# EAGLE library part IC_SRAM_6264_64K_8KB (library mylib_20130829)
MEMORY
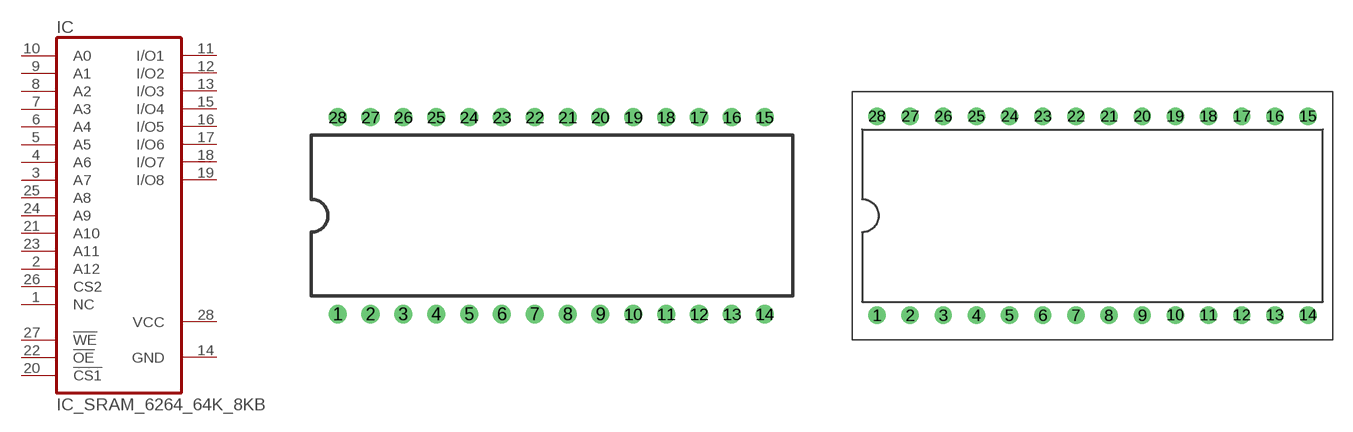
[diagram p88: symbol with the pads of IC_SOCKET_DIL_28_600MIL; footprints IC_SOCKET_DIL_28_600MIL, BOARD_HENKAN_WDIP28]

Designator prefix IC

## IC_SRAM_6264_64K_8KB_DIP  [IC_SOCKET_DIL_28_600MIL]
1  NC  nc
2  A12  in
3  A7  in
4  A6  in
5  A5  in
6  A4  in
7  A3  in
8  A2  in
9  A1  in
10  A0  in
11  I/O1
12  I/O2
13  I/O3
14  GND  pwr
15  I/O4
16  I/O5
17  I/O6
18  I/O7
19  I/O8
20  !CS1  in
21  A10  in
22  !OE  in
23  A11  in
24  A9  in
25  A8  in
26  CS2  in
27  !WE  in
28  VCC  pwr

## IC_SRAM_6264_64K_8KB_HENKAN  [BOARD_HENKAN_WDIP28]
Pads as for IC_SOCKET_DIL_28_600MIL

## IC_SRAM_6264_64K_8KB_SLIM  [IC_SOCKET_DIL_28_300MIL]
Pads as for IC_SOCKET_DIL_28_600MIL

## Footprint IC_SOCKET_DIL_28_600MIL (pad centres in mm)
Dual In Line package type P
drill 0.889: 1 -16.51,-7.62; 2 -13.97,-7.62; 3 -11.43,-7.62; 4 -8.89,-7.62; 5 -6.35,-7.62; 6 -3.81,-7.62; 7 -1.27,-7.62; 8 1.27,-7.62; 9 3.81,-7.62; 10 6.35,-7.62; 11 8.89,-7.62; 12 11.43,-7.62; 13 13.97,-7.62; 14 16.51,-7.62; 15 16.51,7.62; 16 13.97,7.62; 17 11.43,7.62; 18 8.89,7.62; 19 6.35,7.62; 20 3.81,7.62; 21 1.27,7.62; 22 -1.27,7.62; 23 -3.81,7.62; 24 -6.35,7.62; 25 -8.89,7.62; 26 -11.43,7.62; 27 -13.97,7.62; 28 -16.51,7.62

## Footprint BOARD_HENKAN_WDIP28 (pad centres in mm)
drill 0.813: 1 -16.51,-7.62; 2 -13.97,-7.62; 3 -11.43,-7.62; 4 -8.89,-7.62; 5 -6.35,-7.62; 6 -3.81,-7.62; 7 -1.27,-7.62; 8 1.27,-7.62; 9 3.81,-7.62; 10 6.35,-7.62; 11 8.89,-7.62; 12 11.43,-7.62; 13 13.97,-7.62; 14 16.51,-7.62; 15 16.51,7.62; 16 13.97,7.62; 17 11.43,7.62; 18 8.89,7.62; 19 6.35,7.62; 20 3.81,7.62; 21 1.27,7.62; 22 -1.27,7.62; 23 -3.81,7.62; 24 -6.35,7.62; 25 -8.89,7.62; 26 -11.43,7.62; 27 -13.97,7.62; 28 -16.51,7.62

## Footprint IC_SOCKET_DIL_28_300MIL (pad centres in mm)
Dual In Line package type P
drill 0.889: 1 -16.51,-3.81; 2 -13.97,-3.81; 3 -11.43,-3.81; 4 -8.89,-3.81; 5 -6.35,-3.81; 6 -3.81,-3.81; 7 -1.27,-3.81; 8 1.27,-3.81; 9 3.81,-3.81; 10 6.35,-3.81; 11 8.89,-3.81; 12 11.43,-3.81; 13 13.97,-3.81; 14 16.51,-3.81; 15 16.51,3.81; 16 13.97,3.81; 17 11.43,3.81; 18 8.89,3.81; 19 6.35,3.81; 20 3.81,3.81; 21 1.27,3.81; 22 -1.27,3.81; 23 -3.81,3.81; 24 -6.35,3.81; 25 -8.89,3.81; 26 -11.43,3.81; 27 -13.97,3.81; 28 -16.51,3.81